# Altium schematic symbol library ADG5433.Schlib: 1 symbol
Pins are listed as number, name and electrical type; pins without a type are passive.

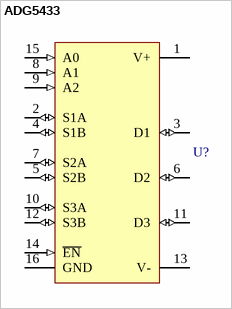
[diagram p0: symbol ADG5433]

## ADG5433
designator U?
pins: 1 V+ (power), 2 S1A (io), 3 D1 (io), 4 S1B (io), 5 S2B (io), 6 D2 (io), 7 S2A (io), 8 A1 (in), 9 A2 (in), 10 S3A (io), 11 D3 (io), 12 S3B (io), 13 V- (power), 14 ~{EN} (in), 15 A0 (in), 16 GND (power)